# EAGLE library part 4840356 (library ampex)
CAPSTAN SERVO PCB
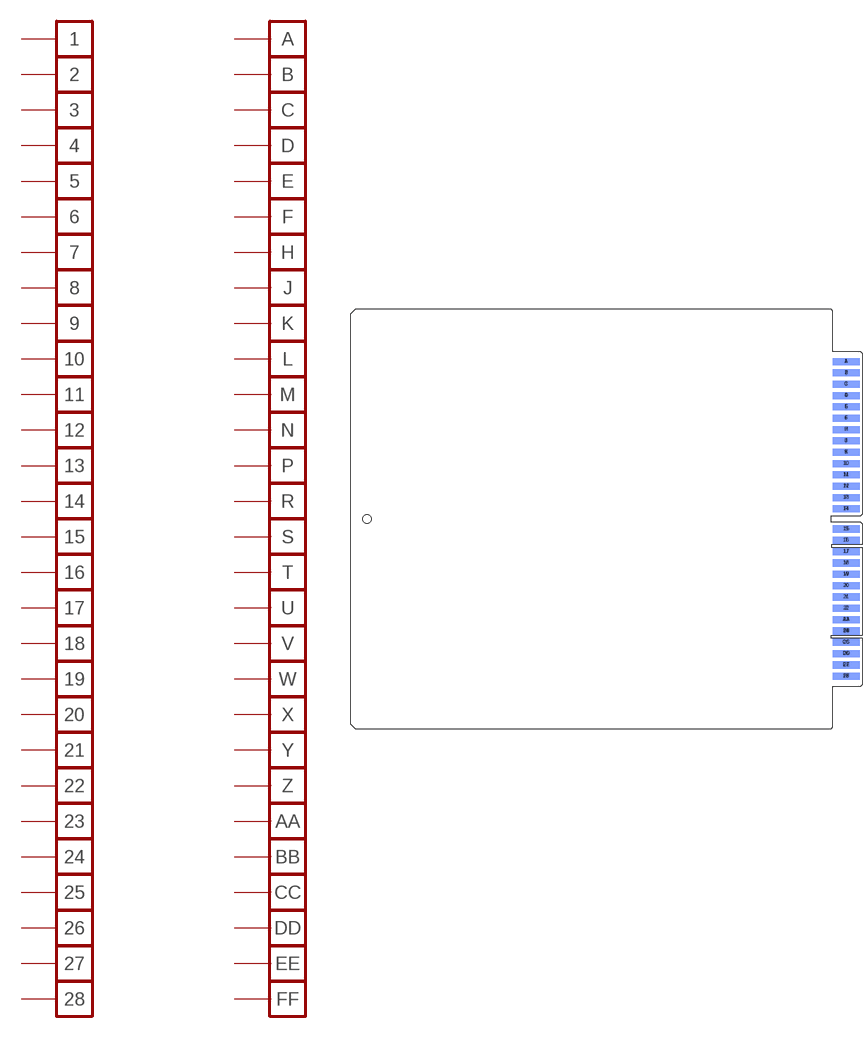
[diagram p18: symbol with the pads of 4840356; footprint 4840356]

Designator prefix PCB; gates 1=FPIN 2=FPIN 3=FPIN 4=FPIN 5=FPIN 6=FPIN 7=FPIN 8=FPIN 9=FPIN 10=FPIN 11=FPIN 12=FPIN 13=FPIN 14=FPIN 15=FPIN 16=FPIN 17=FPIN 18=FPIN 19=FPIN 20=FPIN 21=FPIN 22=FPIN 23=FPIN 24=FPIN 25=FPIN 26=FPIN 27=FPIN 28=FPIN A=FPIN B=FPIN C=FPIN D=FPIN E=FPIN F=FPIN H=FPIN J=FPIN K=FPIN L=FPIN M=FPIN N=FPIN P=FPIN R=FPIN S=FPIN T=FPIN U=FPIN V=FPIN W=FPIN X=FPIN Y=FPIN Z=FPIN AA=FPIN BB=FPIN CC=FPIN DD=FPIN EE=FPIN FF=FPIN

## 4840356  [4840356]
1  1:P  pas
2  2:P  pas
3  3:P  pas
4  4:P  pas
5  5:P  pas
6  6:P  pas
7  7:P  pas
8  8:P  pas
9  9:P  pas
10  10:P  pas
11  11:P  pas
12  12:P  pas
13  13:P  pas
14  14:P  pas
15  15:P  pas
16  16:P  pas
17  17:P  pas
18  18:P  pas
19  19:P  pas
20  20:P  pas
21  21:P  pas
22  22:P  pas
23  23:P  pas
24  24:P  pas
25  25:P  pas
26  26:P  pas
27  27:P  pas
28  28:P  pas
A  A:P  pas
AA  AA:P  pas
B  B:P  pas
BB  BB:P  pas
C  C:P  pas
CC  CC:P  pas
D  D:P  pas
DD  DD:P  pas
E  E:P  pas
EE  EE:P  pas
F  F:P  pas
FF  FF:P  pas
H  H:P  pas
J  J:P  pas
K  K:P  pas
L  L:P  pas
M  M:P  pas
N  N:P  pas
P  P:P  pas
R  R:P  pas
S  S:P  pas
T  T:P  pas
U  U:P  pas
V  V:P  pas
W  W:P  pas
X  X:P  pas
Y  Y:P  pas
Z  Z:P  pas

## Footprint 4840356 (pad centres in mm)
CAPSTAN SERVO PCB
smd 9.525 x 2.477 bottom: 1 -5.588,55.023; 2 -5.588,51.06; 3 -5.588,47.098; 4 -5.588,43.136; 5 -5.588,39.173; 6 -5.588,35.211; 7 -5.588,31.248; 8 -5.588,27.286; 9 -5.588,23.324; 10 -5.588,19.361; 11 -5.588,15.399; 12 -5.588,11.436; 13 -5.588,7.474; 14 -5.588,3.512; 15 -5.588,-3.512; 16 -5.588,-7.474; 17 -5.588,-11.436; 18 -5.588,-15.399; 19 -5.588,-19.361; 20 -5.588,-23.324; 21 -5.588,-27.286; 22 -5.588,-31.248; 23 -5.588,-35.211; 24 -5.588,-39.173; 25 -5.588,-43.136; 26 -5.588,-47.098; 27 -5.588,-51.06; 28 -5.588,-55.023
smd 9.525 x 2.477: A -5.588,55.023; AA -5.588,-35.211; B -5.588,51.06; BB -5.588,-39.173; C -5.588,47.098; CC -5.588,-43.136; D -5.588,43.136; DD -5.588,-47.098; E -5.588,39.173; EE -5.588,-51.06; F -5.588,35.211; FF -5.588,-55.023; H -5.588,31.248; J -5.588,27.286; K -5.588,23.324; L -5.588,19.361; M -5.588,15.399; N -5.588,11.436; P -5.588,7.474; R -5.588,3.512; S -5.588,-3.512; T -5.588,-7.474; U -5.588,-11.436; V -5.588,-15.399; W -5.588,-19.361; X -5.588,-23.324; Y -5.588,-27.286; Z -5.588,-31.248
hole 2.946 at -173.076,0